# Altium schematic symbol library 74LVC07A.SchLib: 1 symbol
Pins are listed as number, name and electrical type; pins without a type are passive.

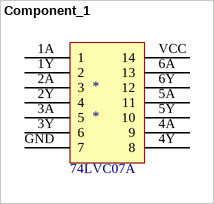
[diagram p0: symbol Component_1]

## Component_1
designator *
footprint PCBComponent_1
pins: 1A 1, 1Y 2, 2A 3, 2Y 4, 3A 5, 3Y 6, 4A 9, 4Y 8, 5A 11, 5Y 10, 6A 13, 6Y 12, GND 7, VCC 14
text: 74LVC07A